# EAGLE library part 690207101872 (library Wurth_Elektronik_Electromechanic_Wire_to_Board_Connectors_rev15c)
WR-MM Transition Connector, 18 Pins=>Code : WR-MM_Leiterplattenverbinder_690207101872 <http://katalog.we-online.de/media/thumbs2/eican/thb_WR-MM_Leiterplattenverbinder_690207101072.jpg> Details see: http://katalog.we-online.de/en/em/6902_0710_xx_72 Created 2014-06-04, Karrer Zheng 2014 (C) Würth Elektronik
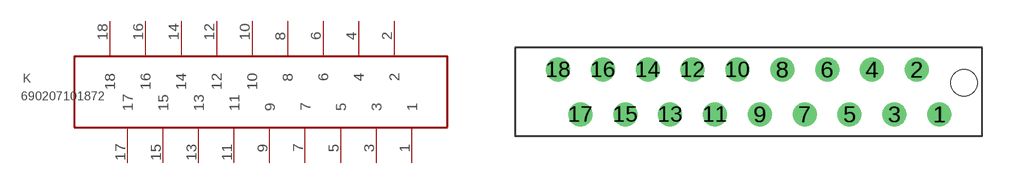
[diagram p97: symbol with the pads of 690207101872; footprint 690207101872]

Designator prefix K

## 690207101872  [690207101872]
1  1  pas
2  2  pas
3  3  pas
4  4  pas
5  5  pas
6  6  pas
7  7  pas
8  8  pas
9  9  pas
10  10  pas
11  11  pas
12  12  pas
13  13  pas
14  14  pas
15  15  pas
16  16  pas
17  17  pas
18  18  pas

## Footprint 690207101872 (pad centres in mm)
WR-MM Transition Connector, 18Pins
drill 0.85: 1 4.445,-1.27; 2 3.175,1.27; 3 1.905,-1.27; 4 0.635,1.27; 5 -0.635,-1.27; 6 -1.905,1.27; 7 -3.175,-1.27; 8 -4.445,1.27; 9 -5.715,-1.27; 10 -6.985,1.27; 11 -8.255,-1.27; 12 -9.525,1.27; 13 -10.795,-1.27; 14 -12.065,1.27; 15 -13.335,-1.27; 16 -14.605,1.27; 17 -15.875,-1.27; 18 -17.145,1.27
hole 1.5 at 5.845,0.53